# Altium schematic symbol library J104D2C5VDC.20S.SchLib: 1 symbol
Pins are listed as number, name and electrical type; pins without a type are passive.

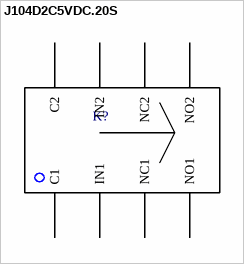
[diagram p0: symbol J104D2C5VDC.20S]

## J104D2C5VDC.20S
designator K?  (value not drawn)
PartNumber: J104D2C5VDC.20S; Manufacturer: CIT Relay and Switch; PartDescription: RELAY UL GEN PURP DPDT 2C 5VDC; Supplier 1: Digi-Key; Supplier Part Number 1: 2449-J104D2C5VDC.20S-ND; Parameter 1: *; Package Type: 8 TH
footprint J104D2C5VDC.20S
pins: 1 C1, 2 IN1, 3 NC1, 4 NO1, 5 NO2, 6 NC2, 7 IN2, 8 C2